# Altium footprint library PCB1.PcbLib: 15 footprints
Each footprint in its own frame and in the unit in brackets; x right, y up, seen from the top. Pads: shape width x height; smd on the part's side, far side on the other; paste and mask are expansions set on the pad; w line width, h text height; cw(c..) or ccw(c..) is an arc to the next point about the centre after c.
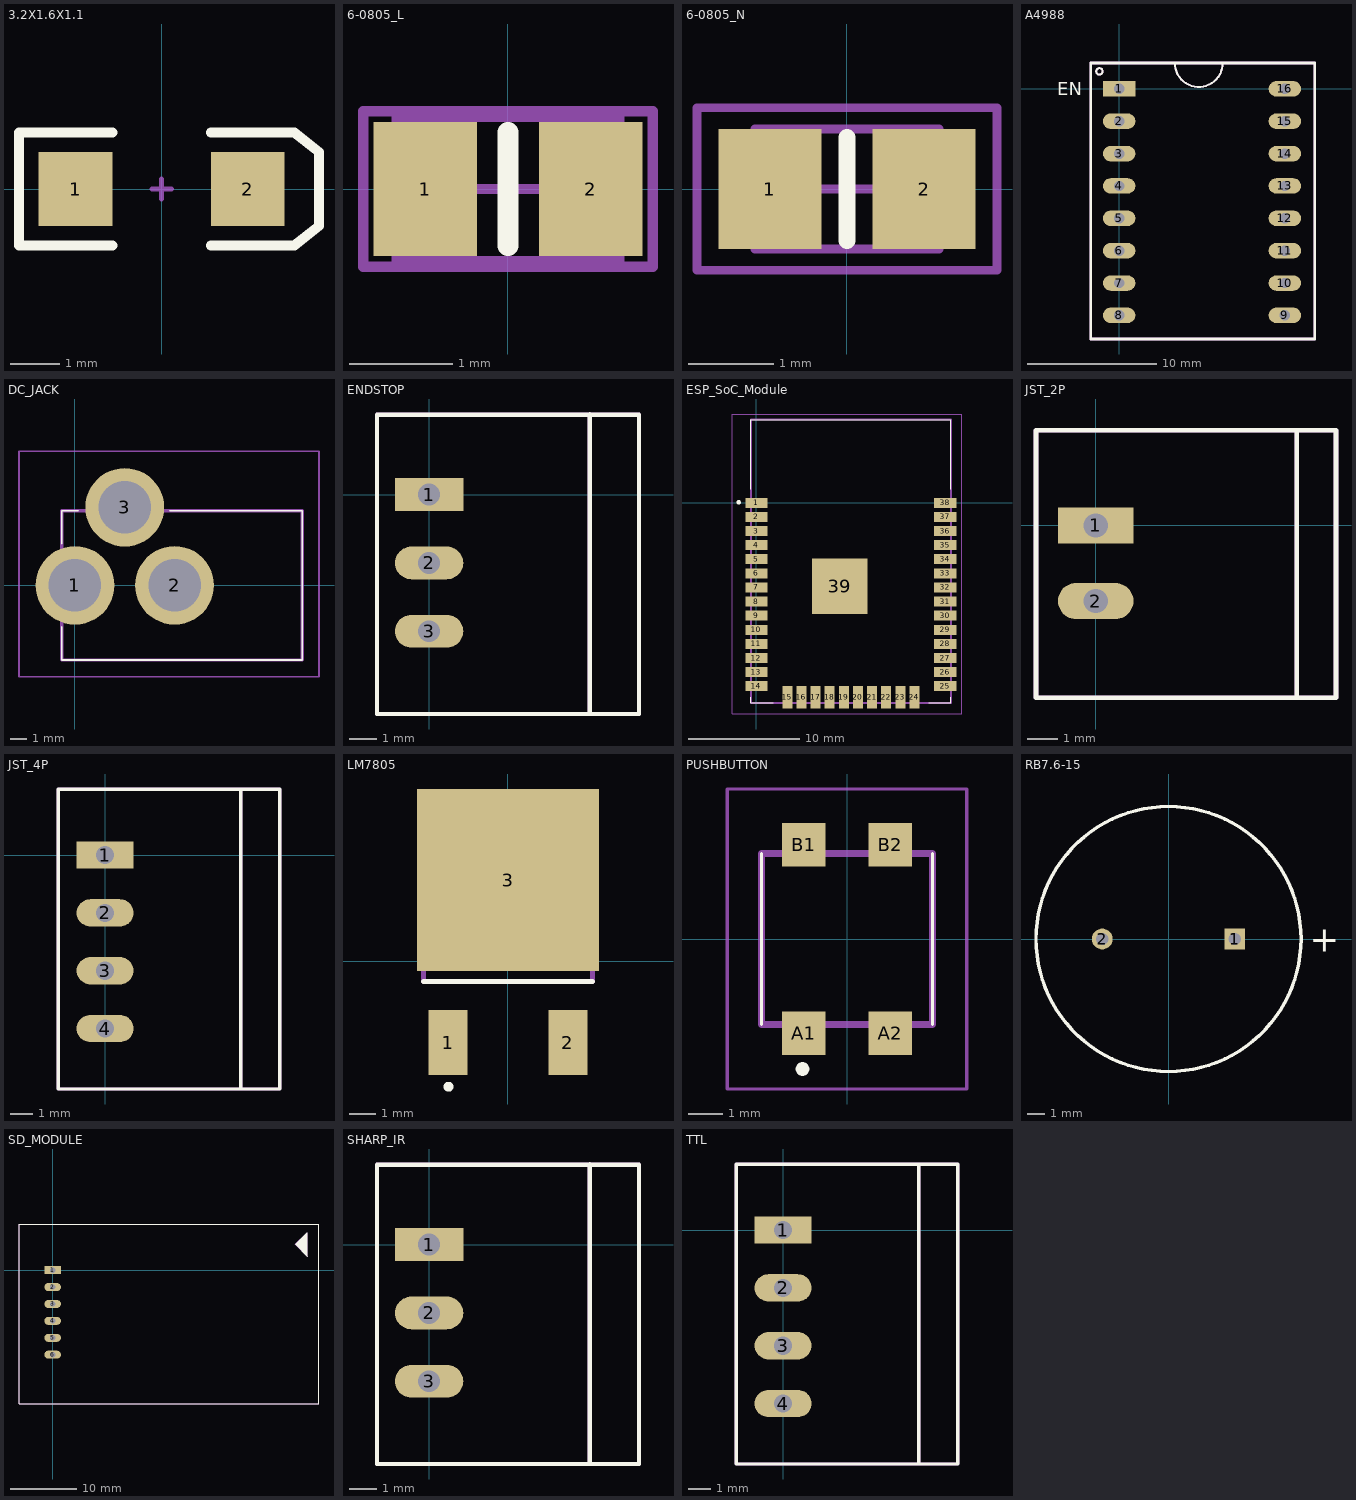
[diagram p0: the footprints below, top view; thin cyan lines are the x and y axes]

## 3.2X1.6X1.1 [mm]
pads (2):
  rect 1.5x1.5 smd: 1(-1.75,0) 2(1.75,0)
Top Overlay:
  lines w0.2: -1,-1.15 -2.9,-1.15 -2.9,1.15 -1,1.15 ; 1,-1.15 2.7,-1.15 3.2,-0.75 3.2,0.75 2.7,1.15 1,1.15
Mechanical 1:
  lines w0.1: -0.2,0 0.2,0 ; 0,-0.2 0,0.2

## 6-0805_L [mm]
pads (2):
  rect 1x1.3 smd: 1(-0.8,0) 2(0.8,0)
Top Overlay:
  lines w0.2: 0,-0.55 0,0.55
Mechanical 13:
  lines w0.1: -1.075,-0.7 1.075,-0.7 1.075,0.7 -1.075,0.7 -1.075,-0.7
Mechanical 15:
  lines w0.1: -0.5,0 0.5,0 ; 0,-0.5 0,0.5 ; -1.4,-0.75 1.4,-0.75 1.4,0.75 -1.4,0.75 -1.4,-0.75
3D body: height 0.7, standoff 0, extent -1.075,-0.7 1.075,0.7

## 6-0805_N [mm]
pads (2):
  rect 1.2x1.4 smd: 1(-0.9,0) 2(0.9,0)
Top Overlay:
  lines w0.2: 0,-0.6 0,0.6
Mechanical 13:
  lines w0.1: -1.075,-0.7 -1.075,0.7 1.075,0.7 1.075,-0.7 -1.075,-0.7
Mechanical 15:
  lines w0.1: -0.5,0 0.5,0 ; 0,-0.5 0,0.5 ; -1.75,-0.95 -1.75,0.95 1.75,0.95 1.75,-0.95 -1.75,-0.95
3D body: height 0.7, standoff 0, extent -1.075,-0.7 1.075,0.7

## A4988 [mm]
pads (16):
  rect 2.5x1.2 hole 0.8: 1(0,0)
  oval 2.5x1.2 hole 0.8: 2(0,-2.5) 3(0,-5) 4(0,-7.5) 5(0,-10) 6(0,-12.5) 7(0,-15) 8(0,-17.5) 9(12.8,-17.5) 10(12.8,-15) 11(12.8,-12.5) 12(12.8,-10) 13(12.8,-7.5) 14(12.8,-5) 15(12.8,-2.5) 16(12.8,0)
Top Overlay:
  circle w0.152: c-1.525,1.35 r0.25
  lines w0.152: 4.296,2.024 ccw(c6.15,2) 8.004,2.026
  lines w0.2: -2.2,-19.325 15.1,-19.325 15.1,2 -2.2,2 -2.2,-19.325
  text "EN" at -4.773,-0.473 h1.02
Mechanical 1:
  circle w0.152: c-1.525,1.35 r0.25
  lines w0.152: 4.296,2.024 ccw(c6.15,2) 8.004,2.026
  lines w0.2: -2.2,-19.325 15.1,-19.325 15.1,2 -2.2,2 -2.2,-19.325
3D body "User Library-A4988.step": height 5.09, standoff -5.07, extent -1.22,-18.8 14.02,1.52

## DC_JACK [mm]
pads (3):
  round 4.743 hole 3.162: 1(0,0) 2(6,0) 3(3,4.7)
Top Overlay:
  lines w0.1: -0.8,-2.5 -0.8,-4.5 13.7,-4.5 13.7,4.5 5.7,4.5 ; -0.8,2.5 -0.8,4.5 0.2,4.5
Mechanical 13:
  lines w0.2: -0.8,-4.5 13.7,-4.5 13.7,4.5 -0.8,4.5 -0.8,-4.5
Mechanical 15:
  lines w0.1: -3.372,-5.5 14.7,-5.5 14.7,8.072 -3.372,8.072 -3.372,-5.5
3D body "PRT-00119.stp": height 11.25, standoff -3.25, extent -1.046,-4.344 13.454,5.206

## ENDSTOP [mm]
pads (3):
  rect 2.5x1.2 hole 0.8: 1(0,0)
  oval 2.5x1.2 hole 0.8: 2(0,-2.5) 3(0,-5)
Top Overlay:
  lines w0.152: 5.875,-8 5.875,2.95 ; -1.905,-8.025 7.675,-8.025 7.675,2.925 -1.905,2.925 -1.905,-8.025
Mechanical 1:
  lines w0.152: 5.875,-8 5.875,2.95 ; -1.905,-8.025 7.675,-8.025 7.675,2.925 -1.905,2.925 -1.905,-8.025
3D body "User Library-JST-XH-2_5mm-3.step": height 5.91, standoff -3.39, extent -0.39,-7.5 7.25,2.5

## ESP_SoC_Module [mm]
pads (39):
  rect 2x0.9 smd: 1(0,0) 2(0,-1.27) 3(0,-2.54) 4(0,-3.81) 5(0,-5.08) 6(0,-6.35) 7(0,-7.62) 8(0,-8.89) 9(0,-10.16) 10(0,-11.43) 11(0,-12.7) 12(0,-13.97) 13(0,-15.24) 14(0,-16.51) 25(17,-16.51) 26(17,-15.24) 27(17,-13.97) 28(17,-12.7) 29(17,-11.43) 30(17,-10.16) 31(17,-8.89) 32(17,-7.62) 33(17,-6.35) 34(17,-5.08) 35(17,-3.81) 36(17,-2.54) 37(17,-1.27) 38(17,0)
  rect 0.9x2 smd: 15(2.785,-17.51) 16(4.055,-17.51) 17(5.325,-17.51) 18(6.595,-17.51) 19(7.865,-17.51) 20(9.135,-17.51) 21(10.405,-17.51) 22(11.675,-17.51) 23(12.945,-17.51) 24(14.215,-17.51)
  rect 5x5 smd: 39(7.5,-7.5)
Top Overlay:
  lines w0.1: -0.5,-17.51 -0.5,-18.01 1.5,-18.01 ; -0.5,1.24 -0.5,7.49 17.5,7.49 17.5,1.24 ; 15.5,-18.01 17.5,-18.01 17.5,-17.51
  lines w0.2: -1.6,-0.06 cw(c-1.6,0.04) -1.6,0.14 cw(c-1.6,0.04) -1.6,-0.06
Mechanical 13:
  lines w0.2: -0.5,-18.01 17.5,-18.01 17.5,7.49 -0.5,7.49 -0.5,-18.01
Mechanical 15:
  lines w0.1: -2.2,-19.01 18.5,-19.01 18.5,7.99 -2.2,7.99 -2.2,-19.01
3D body "ESP-WROOM-32__16MB_.stp": height 3.1, standoff 0, extent -0.5,-17.98 17.5,7.52

## JST_2P [mm]
pads (2):
  rect 2.5x1.2 hole 0.8: 1(0,0)
  oval 2.5x1.2 hole 0.8: 2(0,-2.5)
Top Overlay:
  lines w0.152: 6.65,-5.675 6.65,3.15 ; -1.975,-5.7 -1.975,3.15 7.95,3.15 7.95,-5.7 -1.975,-5.7
Mechanical 1:
  lines w0.152: 6.65,-5.675 6.65,3.15 ; -1.975,-5.7 -1.975,3.15 7.95,3.15 7.95,-5.7 -1.975,-5.7
3D body "User Library-JST-XH-2_5mm-2.step": height 5.91, standoff -3.39, extent -0.34,-4.975 7.3,2.525

## JST_4P [mm]
pads (4):
  rect 2.5x1.2 hole 0.8: 1(0,0)
  oval 2.5x1.2 hole 0.8: 2(0,-2.54) 3(0,-5.08) 4(0,-7.62)
Top Overlay:
  lines w0.152: 5.95,-10.275 5.95,2.9 ; -2.05,-10.275 7.665,-10.275 7.665,2.885 -2.05,2.885 -2.05,-10.275
Mechanical 1:
  lines w0.152: 5.95,-10.275 5.95,2.9 ; -2.05,-10.275 7.665,-10.275 7.665,2.885 -2.05,2.885 -2.05,-10.275
3D body "User Library-JST-XH-2_5mm-4.step": height 5.91, standoff -3.39, extent -0.365,-9.975 7.275,2.525

## LM7805 [mm]
pads (3):
  rect 1.5x2.5 smd: 1(-2.3,-3.125) 2(2.3,-3.125)
  rect 7x7 smd: 3(0,3.125)
Top Overlay:
  circle w0.2: c-2.288,-4.82 r0.089
  lines w0.2: -3.25,-0.775 3.25,-0.775
Mechanical 13:
  lines w0.2: -3.25,-0.775 -3.25,4.725 3.25,4.725 3.25,-0.775 -3.25,-0.775
3D body "BA17805FP-E2.stp": height 2.3, standoff 0, extent -3.25,-3.895 3.25,5.605

## PUSHBUTTON [mm]
pads (4):
  rect 1.27x1.27 smd: A1(-1.27,-2.75) A2(1.27,-2.75) B1(-1.27,2.75) B2(1.27,2.75)
Top Overlay:
  lines w0.1: -2.5,-2.5 -2.5,2.5 ; 2.5,-2.5 2.5,2.5
  lines w0.2: -1.4,-3.8 cw(c-1.3,-3.8) -1.2,-3.8 cw(c-1.3,-3.8) -1.4,-3.8
Mechanical 13:
  lines w0.2: -2.5,-2.5 -2.5,2.5 2.5,2.5 2.5,-2.5 -2.5,-2.5
Mechanical 15:
  lines w0.1: -3.5,-4.385 -3.5,4.385 3.5,4.385 3.5,-4.385 -3.5,-4.385
3D body "7914G-1-000E.stp": height 4.29, standoff 0, extent -2.5,-3.258 2.5,3.258

## RB7.6-15 [mm]
pads (2):
  rect 1.2x1.2 hole 0.7: 1(3.81,0)
  round 1.2 hole 0.7: 2(-3.81,0)
Top Overlay:
  circle w0.2: c0,0 r7.62
  text "+" at 8.132,-0.737 h1.5

## SD_MODULE [mm]
pads (6):
  rect 2.5x1.2 hole 0.8: 1(0,0)
  oval 2.5x1.2 hole 0.8: 2(0,-2.54) 3(0,-5.08) 4(0,-7.62) 5(0,-10.16) 6(0,-12.7)
Top Overlay:
  region: 36.475,3.85 38.25,5.625 38.25,2.075
  lines w0.152: -5.025,5.5 -5.025,6.925 40,6.925 40,-20.1 -5.025,-20.1 -5.025,5.875 ; 36.475,3.85 38.25,5.625 38.25,2.075 36.475,3.85
Mechanical 1:
  region: 36.45,3.85 38.225,5.625 38.225,2.075
  lines w0.152: -5.05,5.5 -5.05,6.925 39.975,6.925 39.975,-20.1 -5.05,-20.1 -5.05,5.875 ; 36.45,3.85 38.225,5.625 38.225,2.075 36.45,3.85
3D body "Product_TF Micro SD Card Memory Modul Arduino.STEP": height 5.63, standoff -5.83, extent -3.225,-18.375 38.575,5.625

## SHARP_IR [mm]
pads (3):
  rect 2.5x1.2 hole 0.8: 1(0,0)
  oval 2.5x1.2 hole 0.8: 2(0,-2.5) 3(0,-5)
Top Overlay:
  lines w0.152: 5.875,-8 5.875,2.95 ; -1.905,-8.025 -1.905,2.925 7.675,2.925 7.675,-8.025 -1.905,-8.025
Mechanical 1:
  lines w0.152: 5.875,-8 5.875,2.95 ; -1.905,-8.025 -1.905,2.925 7.675,2.925 7.675,-8.025 -1.905,-8.025
3D body "User Library-JST-XH-2_5mm-3.step": height 5.91, standoff -3.39, extent -0.39,-7.5 7.25,2.5

## TTL [mm]
pads (4):
  rect 2.5x1.2 hole 0.8: 1(0,0)
  oval 2.5x1.2 hole 0.8: 2(0,-2.54) 3(0,-5.08) 4(0,-7.62)
Top Overlay:
  lines w0.152: 5.95,-10.275 5.95,2.9 ; -2.05,-10.275 -2.05,2.885 7.665,2.885 7.665,-10.275 -2.05,-10.275
Mechanical 1:
  lines w0.152: 5.95,-10.275 5.95,2.9 ; -2.05,-10.275 -2.05,2.885 7.665,2.885 7.665,-10.275 -2.05,-10.275
3D body "User Library-JST-XH-2_5mm-4.step": height 5.91, standoff -3.39, extent -0.365,-9.975 7.275,2.525